# Altium schematic symbol library REG113NA-5.SchLib: 1 symbol
Pins are listed as number, name and electrical type; pins without a type are passive.

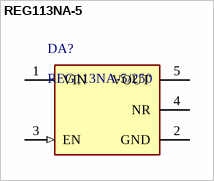
[diagram p0: symbol REG113NA-5]

## REG113NA-5
designator DA?, comment REG113NA-5/250
Single Output Fast Transient Response LDO, 400 mA, Fixed 5 V Output, 1.8 to 10 V Input, 5-pin SOT-23 (DBV), -40 to 85 degC, Green (RoHS & no Sb/Br); Manufacturer: Texas Instruments; Accuracy(%): 1.5; Fixed Output Options(V): 5; SubFamily: Single Channel LDO; Iq(Typ)(mA): 0.4; Vin(Max)(V): 10; Vdo(Typ)(mV): 250; Vin(Min)(V): 1.8; PackageVersion: 4073253-4/K; DatasheetVersion: SBVS031D; Vout Adj(Min)(V): 5; ComponentLink2Description: Datasheet; PackageReference: DBV0005A; PackageDescription: 5-Pin Plastic Small Outline, Body 1.60 Ãƒâ€” 2.90 mm, Pitch 0.95 mm; ComponentLink3Description: Package Specification; ComponentLink1Description: Manufacturer URL; PartNumber: REG113NA-5/250; ComponentLink2URL: http://www.ti.com/general/docs/lit/getliterature.tsp?genericPartNumber=REG113-5&fileType=pdf; Iout(Max)(A): 0.4; Vout Adj(Max)(V): 5; Eco-Plan: Green (RoHS & no Sb/Br); Code_JEDEC: MO-178; Mounting Technology: Surface Mount; ComponentLink1URL: http://www.ti.com/; ComponentLink3URL: http://www.ti.com/litv/pdf/mpds018i
footprint DBV0005A_M (SOT23, 5-Leads, Body 3.05x1.75mm, Pitch 0.95mm, IPC Low Density)
footprint DBV0005A_L (SOT23, 5-Leads, Body 3.05x1.75mm, Pitch 0.95mm, IPC High Density)
footprint DBV0005A_N (SOT23, 5-Leads, Body 3.05x1.75mm, Pitch 0.95mm, IPC Medium Density)
pins: 1 VIN (power), 2 GND (power), 3 EN (in), 4 NR, 5 VOUT (power)